# Altium schematic symbol library LH1546A.SchLib: 1 symbol
Pins are listed as number, name and electrical type; pins without a type are passive.

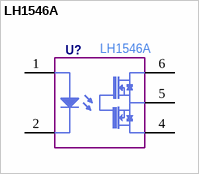
[diagram p0: symbol LH1546A]

## LH1546A
designator U?  Manufacturer Part Number: LH1546A  (hidden comment: *)
pins: 1, 2, 3 hidden, 4, 5, 6 17